# Altium integrated library EM78P510_EM78M611_EM198810.IntLib: 17 symbols
Pins are listed as number, name and electrical type; pins without a type are passive.

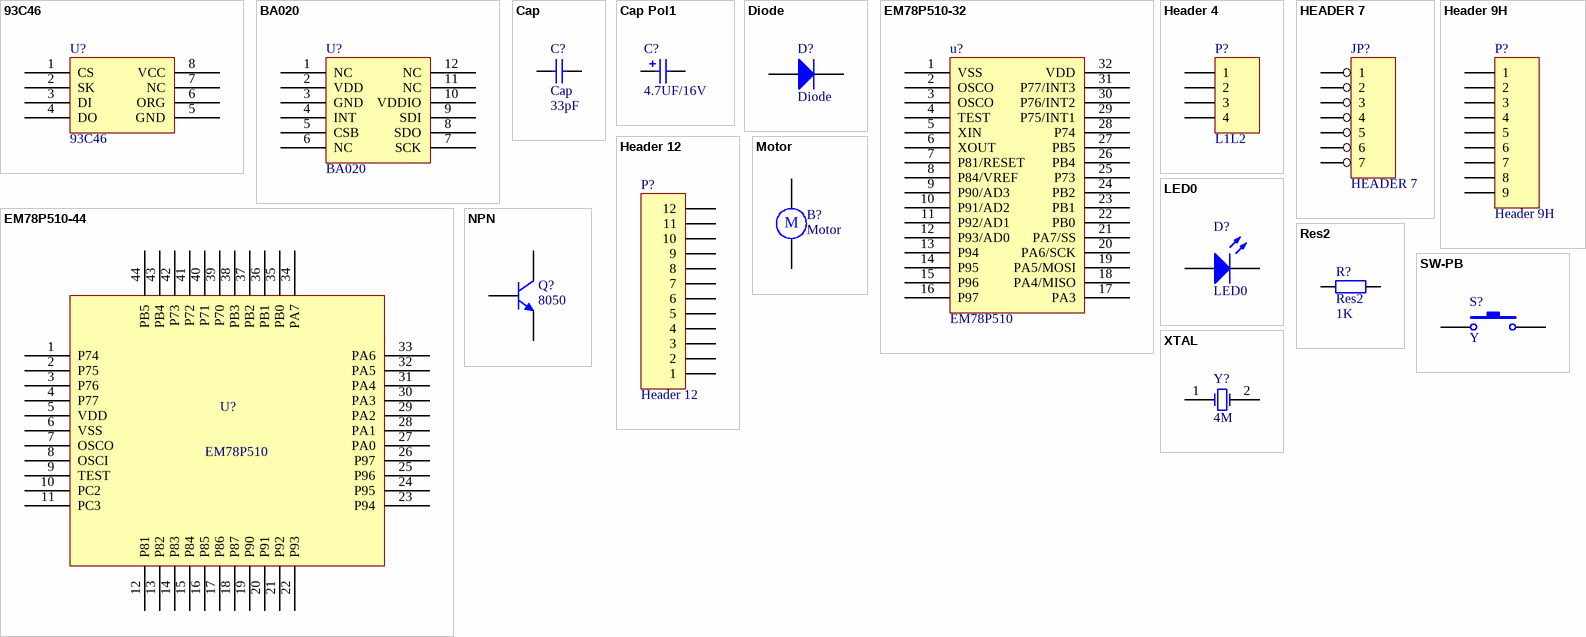
[diagram p0: symbols 93C46 to XTAL]

## 93C46
designator U?
footprint sop8
pins: 1 CS, 2 SK, 3 DI, 4 DO, 5 GND, 6 ORG, 7 NC, 8 VCC

## BA020
designator U?
footprint lcc12
pins: 1 NC, 2 VDD, 3 GND, 4 INT, 5 CSB, 6 NC, 7 SCK, 8 SDO, 9 SDI, 10 VDDIO, 11 NC, 12 NC

## Cap
designator C?  value 33pF
Capacitor; Published: 8-Jun-2000; LatestRevisionDate: 17-Jul-2002; LatestRevisionNote: Re-released for DXP Platform.; PackageReference: RAD-0.3; Publisher: Altium Limited
footprint RAD-0.3 (Capacitor; 2 Leads)
footprint VP32-3.2 (Capacitor, Ceramic, Thru-Hole, Dipped Radial; Body 5.1 x 3.2 mm (WxT) Pin Spacing 2.54 mm (typ))
footprint VP45-3.2 (Capacitor, Ceramic, Thru-Hole, Dipped Radial; Body 7.8 x 3.2 mm (WxT) Pin Spacing 5.08 mm (typ))
simulation model CAP (Capacitor)
signal-integrity model Cap
footprint c0805
pins: 1, 2

## Cap Pol1
designator C?  value 4.7UF/16V  (hidden comment: Cap Pol1)
Polarized Capacitor (Radial); Published: 8-Jun-2000; LatestRevisionDate: 17-Jul-2002; LatestRevisionNote: Re-released for DXP Platform.; PackageReference: RB7.6-15; Publisher: Altium Limited
footprint RB7.6-15 (Polarized Capacitor (Radial); 2 Leads)
footprint HA-C1 (Capacitor, Radial, Tantalum; Body 1.7 x 2.8 mm (Dia.xH max); Pin Spacing 1.27 mm (typ))
footprint A (Capacitor, Electrolytic, Radial; Body 4 x 5 mm (Dia.xH typ); Pin Spacing 1.5 mm (typ))
footprint B (Capacitor, Electrolytic, Radial; Body 5 x 6.8 mm (Dia.xH typ); Pin Spacing 2 mm (typ))
footprint CAPPR5-5x5 (Capacitor, Electrolytic, Radial; Body 5 x 5 mm (Dia.xH typ); Pin Spacing 5 mm (typ))
footprint CAPPR7.5-16x35 (Capacitor, Electrolytic, Radial; Body 16 x 35 mm (Dia.xH typ); Pin Spacing 7.5 mm (typ))
simulation model CAP (Capacitor)
signal-integrity model Cap Pol
footprint rb4.2
footprint c1206-2
pins: 1, 2
1 alternate drawing of the same symbol

## Diode
designator D?
Default Diode; Published: 8-Jun-2000; LatestRevisionDate: 17-Jul-2002; LatestRevisionNote: Re-released for DXP Platform.; PackageDocument: Sep-1996; PackageReference: SMC; Publisher: Altium Limited; Code_JEDEC: DO-214-AB
footprint SMC (DO-214-AB/SMC; 2 C-Bend Leads; Body 7.9 x 5.9 mm, inc. leads (LxW))
simulation model DIODE (Diode)
signal-integrity model Diode
footprint d1407
pins: 1 A, 2 K

## EM78P510-32
designator u?, comment EM78P510
pins: 1 VSS, 2 OSCO, 3 OSCO, 4 TEST, 5 XIN, 6 XOUT, 7 P81/RESET, 8 P84/VREF, 9 P90/AD3, 10 P91/AD2, 11 P92/AD1, 12 P93/AD0, 13 P94, 14 P95, 15 P96, 16 P97, 17 PA3, 18 PA4/MISO, 19 PA5/MOSI, 20 PA6/SCK, 21 PA7/SS, 22 PB0, 23 PB1, 24 PB2, 25 P73, 26 PB4, 27 PB5, 28 P74, 29 P75/INT1, 30 P76/INT2, 31 P77/INT3, 32 VDD

## EM78P510-44
designator U?, comment EM78P510
pins: 1 P74, 2 P75, 3 P76, 4 P77, 5 VDD, 6 VSS, 7 OSCO, 8 OSCI, 9 TEST, 10 PC2, 11 PC3, 12 P81, 13 P82, 14 P83, 15 P84, 16 P85, 17 P86, 18 P87, 19 P90, 20 P91, 21 P92, 22 P93, 23 P94, 24 P95, 25 P96, 26 P97, 27 PA0, 28 PA1, 29 PA2, 30 PA3, 31 PA4, 32 PA5, 33 PA6, 34 PA7, 35 PB0, 36 PB1, 37 PB2, 38 PB3, 39 P70, 40 P71, 41 P72, 42 P73, 43 PB4, 44 PB5

## Header 4
designator P?, comment L1L2
Header, 4-Pin; LatestRevisionDate: 17-Jul-2002; LatestRevisionNote: Re-released for DXP Platform.; Publisher: Altium Limited
footprint HDR1X4 (Connector; Header; 4 Position)
signal-integrity model Connector
footprint sip3
pins: 1, 2, 3, 4

## HEADER 7
designator JP?
footprint HDR1X7
pins: 1, 2, 3, 4, 5, 6, 7

## Header 9H
designator P?
Header, 9-Pin, Right Angle; LatestRevisionDate: 17-Jul-2002; LatestRevisionNote: Re-released for DXP Platform.; Publisher: Altium Limited
footprint HDR1X9H (Connector; Header; 9 Position; Right Angle)
signal-integrity model Connector
footprint rfm
pins: 1, 2, 3, 4, 5, 6, 7, 8, 9

## Header 12
designator P?
Header, 12-Pin; LatestRevisionDate: 17-Jul-2002; LatestRevisionNote: Re-released for DXP Platform.; Publisher: Altium Limited
footprint HDR1X12 (Connector; Header; 12 Position)
signal-integrity model Connector
footprint SIP12
pins: 1, 2, 3, 4, 5, 6, 7, 8, 9, 10, 11, 12

## LED0
designator D?
Typical INFRARED GaAs LED; Published: 8-Jun-2000; LatestRevisionDate: 08-Jul-2005; LatestRevisionNote: Mech Layer 1 removed.; PackageReference: LED-0; Publisher: Altium Limited
footprint LED-0 (Typical INFRARED GaAs LED; 2 Leads)
simulation model LED0 (Diode)
footprint led-3
pins: 1 A, 2 K

## Motor
designator B?
Motor, General Kind; Published: 24-Mar-1999; LatestRevisionDate: 17-Jul-2002; LatestRevisionNote: Re-released for DXP Platform.; PackageReference: RB5-10.5; Publisher: Altium Limited
footprint RB5-10.5 (Motor, General Kind; 2 Leads)
footprint sip2
footprint MOTER (Footprint not found)
pins: 1, 2
text: M

## NPN
designator Q?, comment 8050
NPN Bipolar Transistor; Published: 8-Jun-2000; LatestRevisionDate: 17-Jul-2002; LatestRevisionNote: Re-released for DXP Platform.; PackageReference: TO-226; Publisher: Altium Limited; Code_JEDEC: TO-226-AA
footprint TO-226 (TO, Flat Index; 3 In-Line, Axial Leads; Body Dia. 4.8mm; Leads 0.55 x 0.51 mm (max))
simulation model NPN
signal-integrity model NPN
footprint sot-23
pins: 1 C, 2 B, 3 E

## Res2
designator R?  value 1K
Resistor; Published: 8-Jun-2000; LatestRevisionDate: 17-Jul-2002; LatestRevisionNote: Re-released for DXP Platform.; PackageReference: AXIAL-0.4; Publisher: Altium Limited
footprint AXIAL-0.4 (Resistor; 2 Leads)
simulation model RESISTOR (Resistor)
signal-integrity model Res
footprint r0805
pins: 1, 2

## SW-PB
designator S?, comment Y
Switch; Published: 24-Mar-1999; LatestRevisionDate: 17-Jul-2002; LatestRevisionNote: Re-released for DXP Platform.; PackageReference: SPST-2; Publisher: Altium Limited
footprint SPST-2 (Switch; 2 Leads)
footprint key3
pins: 1, 2

## XTAL
designator Y?, comment 4M
Crystal Oscillator; Published: 8-Jun-2000; LatestRevisionDate: 17-Jul-2002; LatestRevisionNote: Re-released for DXP Platform.; PackageReference: R38; Publisher: Altium Limited
footprint R38 (Crystal, Thru-Hole; 2 Leads; Body 3.1 x 8.2 mm (Dia.xH))
simulation model XTAL (Spice Subcircuit)
footprint XTAL1
pins: 1 OSC1, 2 OSC2